# Altium schematic symbol library BZX84-C5V1_1.Schlib: 1 symbol
Pins are listed as number, name and electrical type; pins without a type are passive.

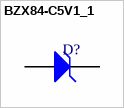
[diagram p0: symbol BZX84-C5V1_1]

## BZX84-C5V1_1
designator D?
Diodes - Zener - Single Diode SOT-23 (TO-236AB) 250mW 5.1V Surface Mount
pins: 1 A, 3 K
1 alternate drawing of the same symbol